# EAGLE library part PINHD-2X03 (library ConV3)
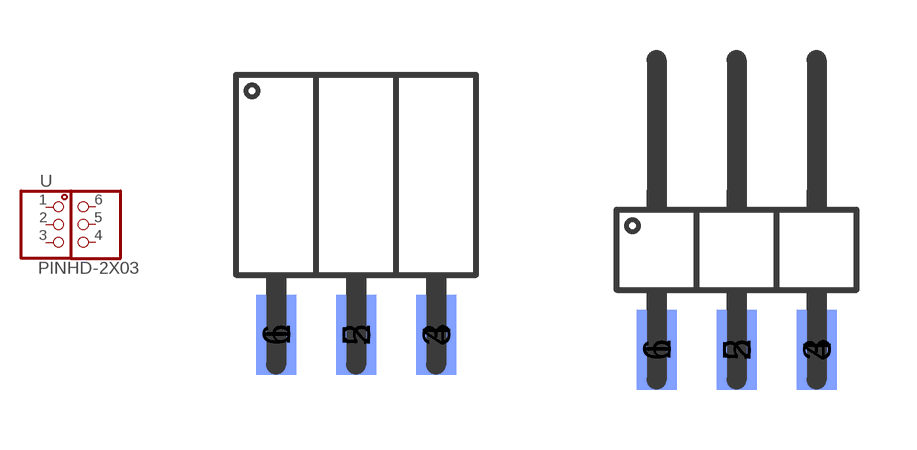
[diagram p2: symbol with the pads of 2X3_SMD/90_2MM_FEMALE; footprints 2X3_SMD/90_2MM_FEMALE, 2X3_SMD/90_2MM_MALE]

Designator prefix -

## PINHD-2X03-2MM_FEMALE  [2X3_SMD/90_2MM_FEMALE]
1  1  pas
2  2  pas
3  3  pas
4  4  pas
5  5  pas
6  6  pas

## PINHD-2X03-2MM_MALE  [2X3_SMD/90_2MM_MALE]
Pads as for 2X3_SMD/90_2MM_FEMALE

## Footprint 2X3_SMD/90_2MM_FEMALE (pad centres in mm)
smd 1 x 2: 1 -2,-2.4; 2 0,-2.4; 3 2,-2.4
smd 1 x 2 bottom: 4 2,-2.4; 5 0,-2.4; 6 -2,-2.4

## Footprint 2X3_SMD/90_2MM_MALE (pad centres in mm)
smd 1 x 2: 1 -2,-2.5; 2 0,-2.5; 3 2,-2.5
smd 1 x 2 bottom: 4 2,-2.5; 5 0,-2.5; 6 -2,-2.5